# Altium schematic symbol library RC0603FR-0730KL.SchLib: 1 symbol
Pins are listed as number, name and electrical type; pins without a type are passive.

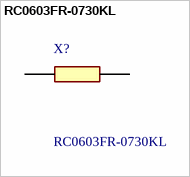
[diagram p0: symbol RC0603FR-0730KL]

## RC0603FR-0730KL
designator X?
Yageo 30k, 0603 (1608M) Thick Film SMD Resistor +/-1% 0.1W - RC0603FR-0730KL; Geometry.Height: 0.55mm; Manufacturer_Name: YAGEO; Manufacturer_Part_Number: RC0603FR-0730KL; Mouser Part Number: 603-RC0603FR-0730KL; Mouser Price/Stock: https://www.mouser.co.uk/ProductDetail/YAGEO/RC0603FR-0730KL?qs=diQw95jMAeNFr44yr782FQ%3D%3D; Arrow Part Number: RC0603FR-0730KL; Arrow Price/Stock: https://www.arrow.com/en/products/rc0603fr-0730kl/yageo?region=nac; Datasheet Link: https://www.yageo.com/upload/media/product/app/datasheet/rchip/pyu-rc_group_51_rohs_l.pdf
footprint RESC1608X55N
pins: 1, 2